# Altium integrated library BRC1608TR50M6.IntLib: 1 symbol
Pins are listed as number, name and electrical type; pins without a type are passive.

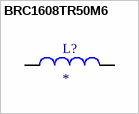
[diagram p0: symbol BRC1608TR50M6]

## BRC1608TR50M6
designator L?
Inductor Power Chip Wirewound 500nH 20% 6MHz Ferrite 1.05A 117mOhm DCR 0603 T/R; MP: BRC1608TR50M6; Package: None; Price: None; Value: *; Availability: Unavailable
footprint INDC1608X100N
pins: 1, 2